# Altium footprint library S2B-PH-K-SLFSN.PcbLib: 1 footprints
Each footprint in its own frame and in the unit in brackets; x right, y up, seen from the top. Pads: shape width x height; smd on the part's side, far side on the other; paste and mask are expansions set on the pad; w line width, h text height; cw(c..) or ccw(c..) is an arc to the next point about the centre after c.
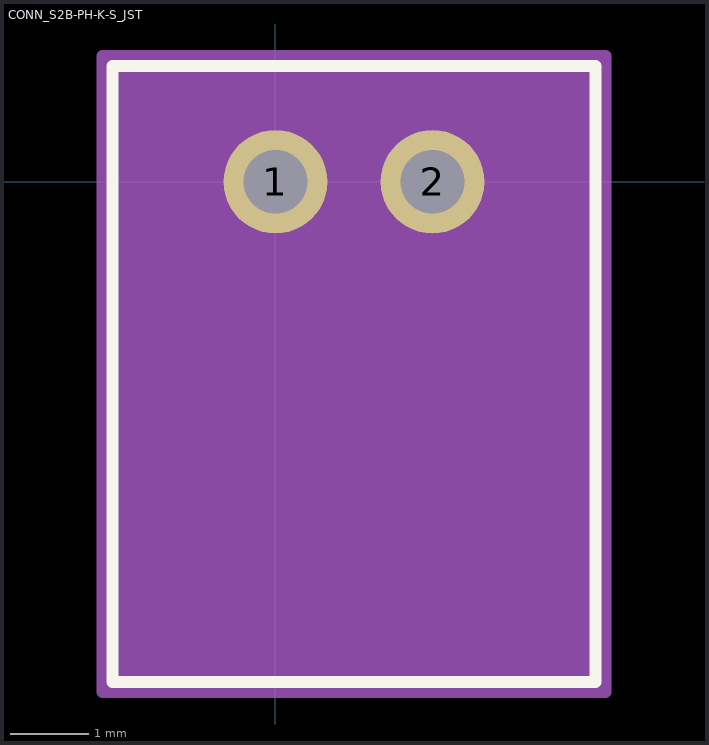
[diagram p0: the footprint, top view; thin cyan lines are the x and y axes]

## CONN_S2B-PH-K-S_JST [mil]
pads (2):
  round 52 / inner round 60 / far side round 52 hole 32 paste-99999 mask+0: 1(0,0) 2(78.74,0)
Top Overlay:
  lines w6: -81.63,-250.85 -81.63,58.15 160.37,58.15 160.37,-250.85 -81.63,-250.85
Mechanical 13:
  lines w1: -76.63,-245.85 -76.63,53.15 155.37,53.15 155.37,-245.85 -76.63,-245.85
Mechanical 15:
  region: 165.37,63.15 -86.63,63.15 -86.63,-255.85 165.37,-255.85
  lines w6: -86.63,-255.85 165.37,-255.85 165.37,63.15 -86.63,63.15 -86.63,-255.85